# EAGLE library part ADG736LBRMZ (library shepherd)
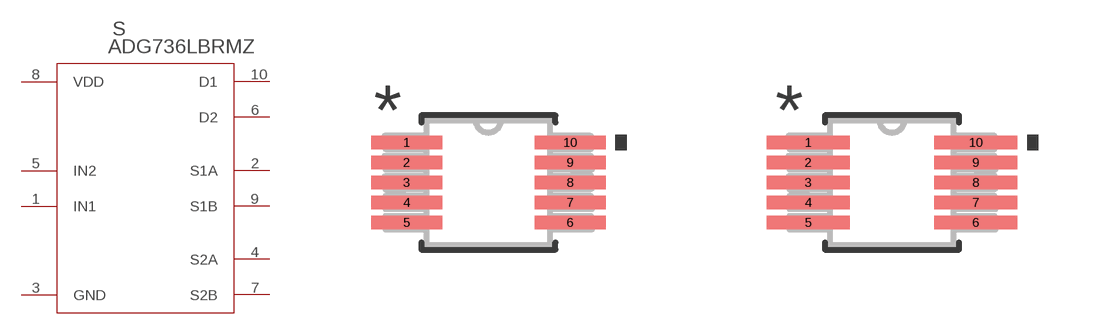
[diagram p4: symbol with the pads of RM_10; footprints RM_10, RM_10-M]

Designator prefix S

## ADG736LBRMZ  [RM_10]
1  IN1  pas
2  S1A  pas
3  GND  pas
4  S2A  pas
5  IN2  pas
6  D2  pas
7  S2B  pas
8  VDD  pas
9  S1B  pas
10  D1  pas

## ADG736LBRMZRM_10-M  [RM_10-M]
Pads as for RM_10

## ADG736LBRMZRM_10-L  [RM_10-L]
Pads as for RM_10

## Footprint RM_10 (pad centres in mm)
smd 1.778 x 0.33: 1 -2.045,1; 2 -2.045,0.5; 3 -2.045,0; 4 -2.045,-0.5; 5 -2.045,-1; 6 2.045,-1; 7 2.045,-0.5; 8 2.045,0; 9 2.045,0.5; 10 2.045,1

## Footprint RM_10-M (pad centres in mm)
smd 2.083 x 0.33: 1 -2.095,1; 2 -2.095,0.5; 3 -2.095,0; 4 -2.095,-0.5; 5 -2.095,-1; 6 2.095,-1; 7 2.095,-0.5; 8 2.095,0; 9 2.095,0.5; 10 2.095,1

## Footprint RM_10-L (pad centres in mm)
smd 1.473 x 0.33: 1 -1.994,1; 2 -1.994,0.5; 3 -1.994,0; 4 -1.994,-0.5; 5 -1.994,-1; 6 1.994,-1; 7 1.994,-0.5; 8 1.994,0; 9 1.994,0.5; 10 1.994,1